# Altium schematic symbol library NPN.Schlib: 1 symbol
Pins are listed as number, name and electrical type; pins without a type are passive.

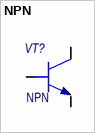
[diagram p0: symbol NPN]

## NPN
designator VT?
Generic NPN transistor; Потребление, Вт: 0,0; Назначение: Generic NPN transistor; ComponentLink1Description: DataSheet; ComponentLink1URL: https://www.integral.by/sites/default/files/pdf/2t3117.pdf; Наименование: NPN
footprint SOT-23; pin to pad B>1 C>3 E>2
pins: B BASE, C COLLECTOR, E EMITTER